# Altium footprint library MyLib.PcbLib: 105 footprints (part 7 of 7)
Each footprint in its own frame and in the unit in brackets; x right, y up, seen from the top. Pads: shape width x height; smd on the part's side, far side on the other; paste and mask are expansions set on the pad; w line width, h text height; cw(c..) or ccw(c..) is an arc to the next point about the centre after c.
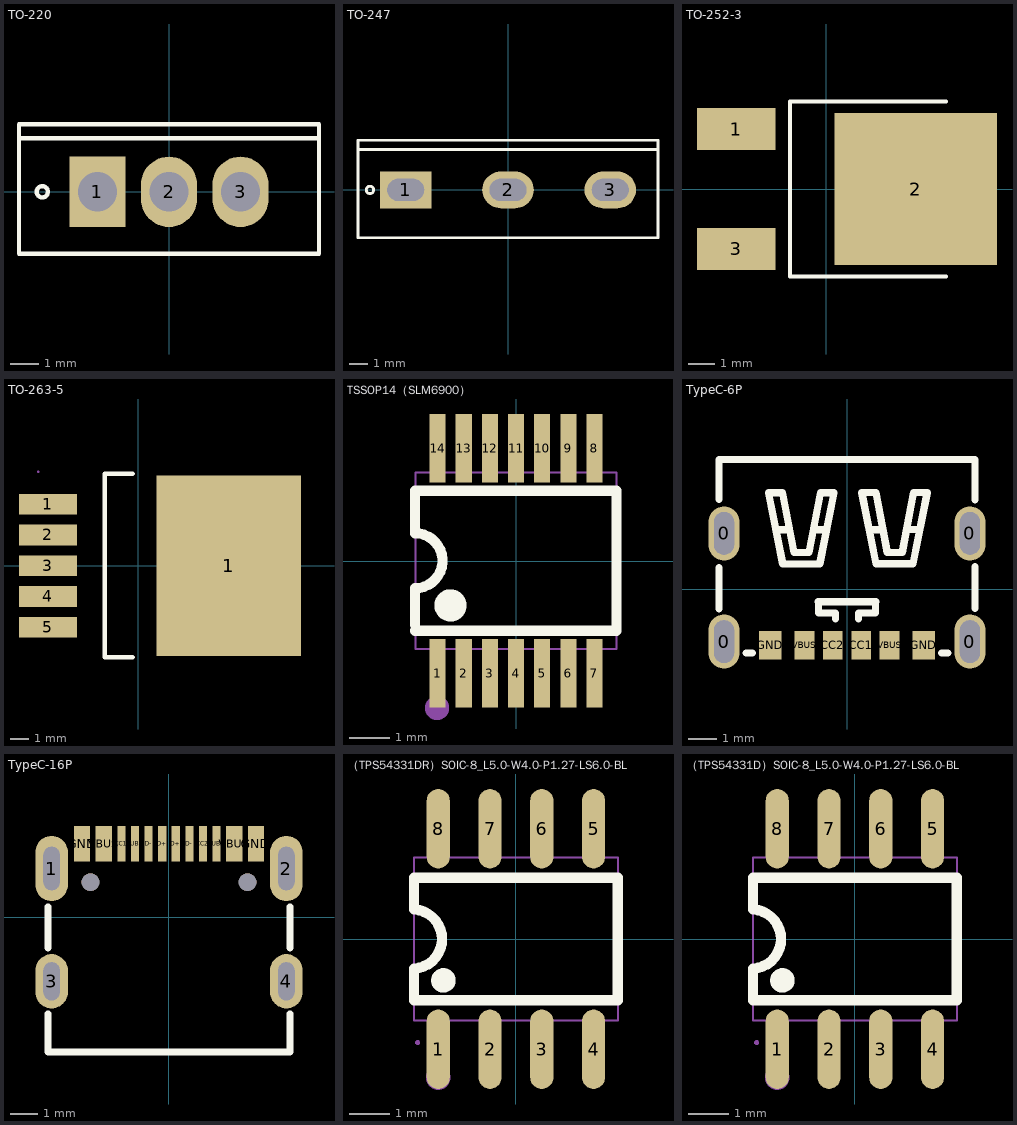
[diagram p6: the footprints below, top view; thin cyan lines are the x and y axes]

## TO-220 [mm]
pads (3):
  rect 2x2.5 hole 1.4: 1(-2.54,0)
  oval 2x2.5 hole 1.4: 2(0,0) 3(2.54,0)
Top Overlay:
  circle w0.152: c-4.5,0 r0.2
  lines w0.152: -5.327,1.905 5.327,1.905 ; -5.327,-2.2 5.327,-2.2 5.327,2.4 -5.327,2.4 -5.327,-2.2

## TO-247 [mm]
pads (3):
  rect 2.8x2 hole 1.2 slot 2 at 0 deg: 1(-5.56,0)
  oval 2.8x2 hole 1.2 slot 2 at 0 deg: 2(0,0) 3(5.56,0)
Top Overlay:
  circle w0.152: c-7.5,0 r0.2
  lines w0.152: -8.151,2.2 8.151,2.2 ; -8.151,-2.601 -8.151,2.7 8.151,2.7 8.151,-2.601 -8.151,-2.601

## TO-252-3 [mm]
pads (3):
  rect 3x1.6 smd mask+0.051: 1(-3.424,2.285) 3(-3.424,-2.285)
  rect 6.2x5.8 smd mask+0.051: 2(3.424,0)
Top Overlay:
  lines w0.152: 4.585,-3.346 -1.383,-3.346 -1.383,3.346 4.585,3.346

## TO-263-5 [mm]
pads (6):
  rect 3.2x1.15 smd mask+0.102: 1(-5.008,3.404) 2(-5.008,1.702) 3(-5.008,0) 4(-5.008,-1.702) 5(-5.008,-3.404)
  rect 8x10 smd mask+0.102: 1(5,0)
Top Overlay:
  lines w0.254: -0.326,-5.08 -1.863,-5.08 -1.863,5.08 -0.326,5.08
Mechanical 6:
  circle w0.3: c-6.018,3.388 r0.15
Mechanical 15:
  region: -5.483,5.207 -5.483,5.232 -5.518,5.267 -5.567,5.267 -5.603,5.232 -5.603,5.207 -5.603,5.182 -5.567,5.147 -5.518,5.147 -5.483,5.182

## TSSOP14（SLM6900） [mm]
pads (14):
  rect 0.4x1.7 smd: 1(-1.95,-2.784) 2(-1.3,-2.784) 3(-0.65,-2.784) 4(0,-2.784) 5(0.65,-2.784) 6(1.3,-2.784) 7(1.95,-2.784) 8(1.95,2.816) 9(1.3,2.816) 10(0.65,2.816) 11(0,2.816) 12(-0.65,2.816) 13(-1.3,2.816) 14(-1.95,2.816)
Top Overlay:
  circle w0.4: c-1.63,-1.094 r0.2
  lines w0.254: -2.515,-1.724 2.5,-1.724 2.5,1.759 -2.515,1.759 -2.515,0.702 cw(c-2.515,0.016) -2.515,-0.67 -2.515,-1.584
Mechanical 6:
  circle w0.3: c-1.964,-3.646 r0.15
Mechanical 15:
  drawing of 33 lines, arcs and shapes, not listed

## TypeC-6P [mm]
pads (10):
  oval 1.1x1.9 hole 0.7 slot 1.5 at 90 deg mask+0.102: 0(-4.32,-1.838) 0(-4.32,1.963) 0(4.32,-1.838) 0(4.32,1.963)
  rect 0.7x1 smd mask+0.051: CC1(0.5,-1.963) CC2(-0.5,-1.963) VBUS(-1.5,-1.963) VBUS(1.5,-1.963)
  rect 0.8x1 smd mask+0.051: GND(-2.7,-1.963) GND(2.7,-1.963)
Top Overlay:
  lines w0.25: -4.501,3.164 -4.501,4.563 4.501,4.563 4.501,3.141 4.501,3.164 ; -4.5,-0.688 -4.5,0.762 ; -3.541,-2.238 -3.329,-2.238 ; -1.01,-0.438 1.01,-0.438 ; -1,-0.438 -1,-0.838 -0.4,-0.838 -0.4,-1.038 ; 0.4,-1.038 0.4,-0.838 1,-0.838 1,-0.438 ; 3.329,-2.238 3.541,-2.238 ; 4.5,-0.68 4.5,-0.638 4.5,0.805
  lines w0.254: -2.458,2.09 -2.058,2.09 ; -1.158,2.09 -0.759,2.09 ; 0.819,2.095 1.219,2.095 ; 2.119,2.095 2.518,2.095 ; -2.758,3.391 -2.257,0.889 -0.957,0.889 -0.459,3.391 -0.934,3.391 -1.335,1.29 -1.864,1.29 -2.263,3.391 -2.758,3.391 ; 0.519,3.396 1.019,0.894 2.32,0.894 2.818,3.396 2.343,3.396 1.941,1.295 1.413,1.295 1.014,3.396 0.519,3.396
Top Paste:
  region: 4.87,-2.238 4.87,-2.347 4.786,-2.549 4.631,-2.704 4.429,-2.788 4.21,-2.788 4.008,-2.704 3.854,-2.549 3.77,-2.347 3.77,-2.238 3.77,-1.438 3.77,-1.328 3.854,-1.126 4.008,-0.971 4.21,-0.888 4.429,-0.888 4.631,-0.971 4.786,-1.126 4.87,-1.328 4.87,-1.438
  region: -3.77,-2.238 -3.77,-2.347 -3.854,-2.549 -4.008,-2.704 -4.21,-2.788 -4.429,-2.788 -4.631,-2.704 -4.786,-2.549 -4.87,-2.347 -4.87,-2.238 -4.87,-1.438 -4.87,-1.328 -4.786,-1.126 -4.631,-0.971 -4.429,-0.888 -4.21,-0.888 -4.008,-0.971 -3.854,-1.126 -3.77,-1.328 -3.77,-1.438
  region: 4.87,1.563 4.87,1.453 4.786,1.251 4.631,1.096 4.429,1.013 4.21,1.013 4.008,1.096 3.854,1.251 3.77,1.453 3.77,1.563 3.77,2.363 3.77,2.472 3.854,2.674 4.008,2.829 4.21,2.913 4.429,2.913 4.631,2.829 4.786,2.674 4.87,2.472 4.87,2.363
  region: -3.77,1.563 -3.77,1.453 -3.854,1.251 -4.008,1.096 -4.21,1.013 -4.429,1.013 -4.631,1.096 -4.786,1.251 -4.87,1.453 -4.87,1.563 -4.87,2.363 -4.87,2.472 -4.786,2.674 -4.631,2.829 -4.429,2.913 -4.21,2.913 -4.008,2.829 -3.854,2.674 -3.77,2.472 -3.77,2.363
  region: 3.1,-2.463 2.3,-2.463 2.3,-1.463 3.1,-1.463
  region: 1.85,-2.463 1.15,-2.463 1.15,-1.463 1.85,-1.463
  region: 0.85,-2.463 0.15,-2.463 0.15,-1.463 0.85,-1.463
  region: -0.15,-2.463 -0.85,-2.463 -0.85,-1.463 -0.15,-1.463
  region: -1.15,-2.463 -1.85,-2.463 -1.85,-1.463 -1.15,-1.463
  region: -2.3,-2.463 -3.1,-2.463 -3.1,-1.463 -2.3,-1.463

## TypeC-16P [mm]
pads (18):
  oval 1.2x2.4 hole 0.6 slot 1.6 at 90 deg: 1(-4.32,1.787) 2(4.32,1.787)
  oval 1.2x2 hole 0.6 slot 1.4 at 90 deg: 3(-4.32,-2.362) 4(4.32,-2.362)
  rect 0.3x1.3 smd: CC1(-1.75,2.7) CC2(1.25,2.7) D+(-0.25,2.7) D+(0.25,2.7) D-(-0.75,2.7) D-(0.75,2.7) SUB1(1.75,2.7) SUB2(-1.25,2.7)
  rect 0.6x1.3 smd: GND(-3.2,2.7) GND(3.2,2.7) VBUS(-2.4,2.7) VBUS(2.4,2.7)
  round 0.65 hole 0.65 unplated: ""(-2.89,1.288) ""(2.89,1.288)
Top Overlay:
  lines w0.254: -4.45,-3.556 -4.45,-4.963 4.45,-4.963 4.45,-3.556 ; -4.45,-1.143 -4.45,0.381 ; 4.45,-1.143 4.45,0.381

## （TPS54331DR）SOIC-8_L5.0-W4.0-P1.27-LS6.0-BL [mil]
pads (8):
  oval 22.38x76.78 smd: 1(-75,-106.5) 2(-25,-106.5) 3(25,-106.5) 4(75,-106.5) 5(75,106.5) 6(25,106.5) 7(-25,106.5) 8(-75,106.5)
Top Overlay:
  circle w11.81: c-70,-40 r5.91
  lines w10: -98.43,-28.61 ccw(c-99.99,0) -98.23,28.59 ; -98.42,-28.61 -98.42,-59.05 98.42,-59.05 98.42,59.05 -98.42,59.05 -98.42,28.59
Mechanical 6:
  circle w11.81: c-75,-133.86 r5.91
Mechanical 15:
  region: -92.64,-100 -92.64,-99.02 -94.02,-97.64 -95.98,-97.64 -97.36,-99.02 -97.36,-100 -97.36,-100.98 -95.98,-102.36 -94.02,-102.36 -92.64,-100.98
  region: 66.93,76.38 66.93,85.63 83.07,85.63 83.07,76.38
  region: 66.93,85.24 66.93,118.11 83.07,118.11 83.07,85.24
  region: 16.93,76.38 16.93,85.63 33.07,85.63 33.07,76.38
  region: 16.93,85.24 16.93,118.11 33.07,118.11 33.07,85.24
  region: -33.07,76.38 -33.07,85.63 -16.93,85.63 -16.93,76.38
  region: -33.07,85.24 -33.07,118.11 -16.93,118.11 -16.93,85.24
  region: -83.07,76.38 -83.07,85.63 -66.93,85.63 -66.93,76.38
  region: -83.07,85.24 -83.07,118.11 -66.93,118.11 -66.93,85.24
  region: 66.93,-85.63 66.93,-76.38 83.07,-76.38 83.07,-85.63
  region: 66.93,-118.11 66.93,-85.24 83.07,-85.24 83.07,-118.11
  region: 16.93,-85.63 16.93,-76.38 33.07,-76.38 33.07,-85.63
  region: 16.93,-118.11 16.93,-85.24 33.07,-85.24 33.07,-118.11
  region: -33.07,-85.63 -33.07,-76.38 -16.93,-76.38 -16.93,-85.63
  region: -33.07,-118.11 -33.07,-85.24 -16.93,-85.24 -16.93,-118.11
  region: -83.07,-85.63 -83.07,-76.38 -66.93,-76.38 -66.93,-85.63
  region: -83.07,-118.11 -83.07,-85.24 -66.93,-85.24 -66.93,-118.11
  lines w2: -98.42,-78.74 -98.42,78.74 98.42,78.74 98.42,-78.74 -98.42,-78.74

## （TPS54331D）SOIC-8_L5.0-W4.0-P1.27-LS6.0-BL [mil]
pads (8):
  oval 22.38x76.78 smd: 1(-75,-106.5) 2(-25,-106.5) 3(25,-106.5) 4(75,-106.5) 5(75,106.5) 6(25,106.5) 7(-25,106.5) 8(-75,106.5)
Top Overlay:
  circle w11.81: c-70,-40 r5.91
  lines w10: -98.43,-28.61 ccw(c-99.99,0) -98.23,28.59 ; -98.42,-28.61 -98.42,-59.05 98.42,-59.05 98.42,59.05 -98.42,59.05 -98.42,28.59
Mechanical 6:
  circle w11.81: c-75,-133.86 r5.91
Mechanical 15:
  region: -92.64,-100 -92.64,-99.02 -94.02,-97.64 -95.98,-97.64 -97.36,-99.02 -97.36,-100 -97.36,-100.98 -95.98,-102.36 -94.02,-102.36 -92.64,-100.98
  region: 66.93,76.38 66.93,85.63 83.07,85.63 83.07,76.38
  region: 66.93,85.24 66.93,118.11 83.07,118.11 83.07,85.24
  region: 16.93,76.38 16.93,85.63 33.07,85.63 33.07,76.38
  region: 16.93,85.24 16.93,118.11 33.07,118.11 33.07,85.24
  region: -33.07,76.38 -33.07,85.63 -16.93,85.63 -16.93,76.38
  region: -33.07,85.24 -33.07,118.11 -16.93,118.11 -16.93,85.24
  region: -83.07,76.38 -83.07,85.63 -66.93,85.63 -66.93,76.38
  region: -83.07,85.24 -83.07,118.11 -66.93,118.11 -66.93,85.24
  region: 66.93,-85.63 66.93,-76.38 83.07,-76.38 83.07,-85.63
  region: 66.93,-118.11 66.93,-85.24 83.07,-85.24 83.07,-118.11
  region: 16.93,-85.63 16.93,-76.38 33.07,-76.38 33.07,-85.63
  region: 16.93,-118.11 16.93,-85.24 33.07,-85.24 33.07,-118.11
  region: -33.07,-85.63 -33.07,-76.38 -16.93,-76.38 -16.93,-85.63
  region: -33.07,-118.11 -33.07,-85.24 -16.93,-85.24 -16.93,-118.11
  region: -83.07,-85.63 -83.07,-76.38 -66.93,-76.38 -66.93,-85.63
  region: -83.07,-118.11 -83.07,-85.24 -66.93,-85.24 -66.93,-118.11
  lines w2: -98.42,-78.74 -98.42,78.74 98.42,78.74 98.42,-78.74 -98.42,-78.74